# EAGLE library part NE5532 (library Miszczo)
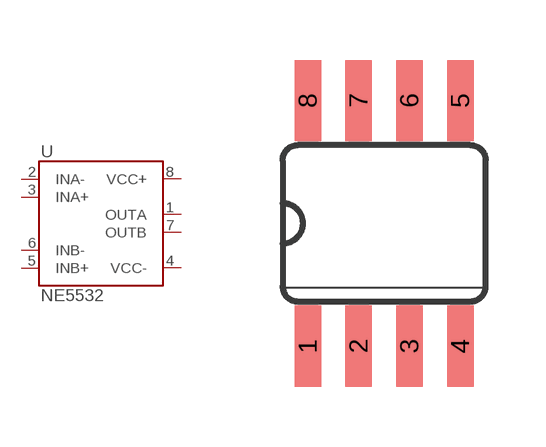
[diagram p2: symbol with the pads of SO8; footprint SO8]

Designator prefix U

## NE5532  [SO8]
1  OUTA
2  INA-
3  INA+
4  VCC-
5  INB+
6  INB-
7  OUTB
8  VCC+

## Footprint SO8 (pad centres in mm)
smd 0.66 x 2.032: 1 -1.905,-3.073; 2 -0.635,-3.073; 3 0.635,-3.073; 4 1.905,-3.073; 5 1.905,3.073; 6 0.635,3.073; 7 -0.635,3.073; 8 -1.905,3.073